# Altium integrated library Linear Technology Power Management System Supervisor, Monitor and Control.IntLib: 1611 symbols (part 57 of 100)
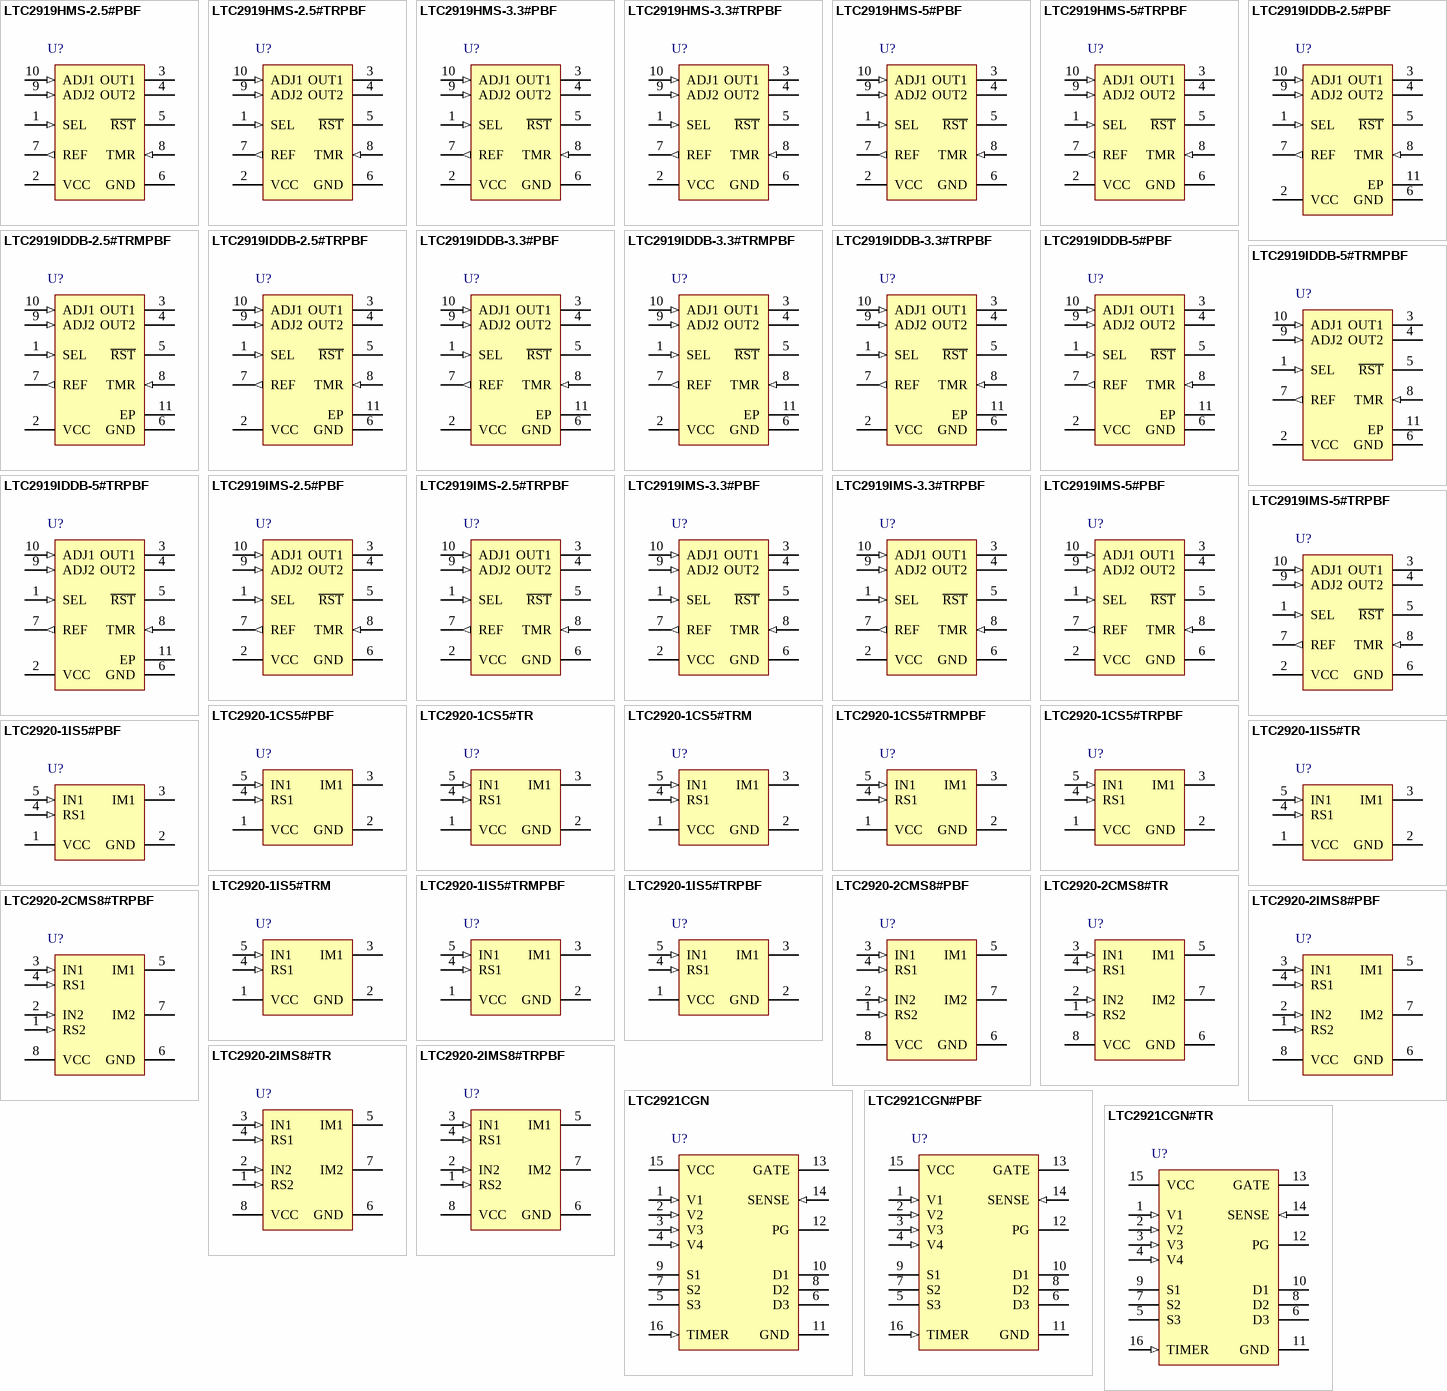
[diagram p101: symbols LTC2919HMS-2.5#PBF to LTC2921CGN#TR]

## LTC2920-1CS5#TR
designator U?
Single Power Supply Margining Controller, 5-pin SOT23 (S5-5), 0 to 70 degC, Tape and Reel; Manufacturer: Linear Technology; PartNumber: LTC2920-1CS5#TR; Number of Supplies(#): 1; DatasheetVersion: Rev. A; PackageVersion: Jun-10; PackageReference: S5-5; PackageDescription: 5-Pin Plastic TSOT-23, Body 1.63 x 2.90 mm, Pitch 0.95 mm; Supplier 1: Digi-Key; Supplier Part Number 1: LTC2920-1CS5#TR-ND; Packing: Tape and Reel; RoHS: FALSE; Mounting Technology: Surface Mount; Code_JEDEC: MO-193; ComponentLink1Description: Manufacturer URL; ComponentLink1URL: http://www.linear.com/; ComponentLink2Description: Datasheet; ComponentLink2URL: http://cds.linear.com/docs/en/datasheet/292012fa.pdf; ComponentLink3Description: Package Specification; ComponentLink3URL: http://cds.linear.com/docs/en/packaging/SOT_5_05-08-1635.pdf
footprint LT-S5-5-TSOT-23_N (SOT23, 5-Leads, Body 2.90x1.63mm, Pitch 0.95mm, IPC Medium Density)
footprint LT-S5-5-TSOT-23_L (SOT23, 5-Leads, Body 2.90x1.63mm, Pitch 0.95mm, IPC High Density)
footprint LT-S5-5-TSOT-23_M (SOT23, 5-Leads, Body 2.90x1.63mm, Pitch 0.95mm, IPC Low Density)
pins: 1 VCC (power) "Power Supply Input. All internal circuits are powered from this pin. VCC should be connected to a low noise power supply voltage between 2.3V and 6V and should be bypassed with at least a 0.1uF capacitor to the GND pin in (See Datasheet)", 2 GND (power) "Ground. All internal circuits are returned to the GND pin. Connect this ground pin to the ground of the power supply(s) being margined. Current sunk into the IM pins of the LTC2920 is returned to ground through this pin.", 3 IM1 (hiz) "IM1 Current Output. This pin should be connected to the power supply feedback pin or voltage adjust pin. (See the Applications Information section for further details.) Current is either sourced out of or sunk into this pin. (See Datasheet)", 4 RS1 (in) "IM1 Current Set Input. The RS1 pin is used to set the margining current which is sourced out of or sunk into the IM1 pin. The RS1 pin must be connected to either VCC or ground with an external resistor RSET with a value (See Datasheet)", 5 IN1 (in) "IM1 Control Pin. This pin is a 3-level input pin which controls the IM1 pin. If the IN1 pin is pulled above VIH, current is sunk into the IM1 pin. If the IN1 pin is pulled below VIL, current is sourced from the IM1 pin. If (See Datasheet)"

## LTC2920-1CS5#TRM
designator U?
Single Power Supply Margining Controller, 5-pin SOT23 (S5-5), 0 to 70 degC, Mini Tape and Reel; Manufacturer: Linear Technology; PartNumber: LTC2920-1CS5#TRM; Number of Supplies(#): 1; DatasheetVersion: Rev. A; PackageVersion: Jun-10; PackageReference: S5-5; PackageDescription: 5-Pin Plastic TSOT-23, Body 1.63 x 2.90 mm, Pitch 0.95 mm; Supplier 1: Digi-Key; Supplier Part Number 1: LTC2920-1CS5#TRMCT-ND; Packing: Mini Tape and Reel; RoHS: FALSE; Mounting Technology: Surface Mount; Code_JEDEC: MO-193; ComponentLink1Description: Manufacturer URL; ComponentLink1URL: http://www.linear.com/; ComponentLink2Description: Datasheet; ComponentLink2URL: http://cds.linear.com/docs/en/datasheet/292012fa.pdf; ComponentLink3Description: Package Specification; ComponentLink3URL: http://cds.linear.com/docs/en/packaging/SOT_5_05-08-1635.pdf
footprint LT-S5-5-TSOT-23_N (SOT23, 5-Leads, Body 2.90x1.63mm, Pitch 0.95mm, IPC Medium Density)
footprint LT-S5-5-TSOT-23_L (SOT23, 5-Leads, Body 2.90x1.63mm, Pitch 0.95mm, IPC High Density)
footprint LT-S5-5-TSOT-23_M (SOT23, 5-Leads, Body 2.90x1.63mm, Pitch 0.95mm, IPC Low Density)
pins: 1 VCC (power) "Power Supply Input. All internal circuits are powered from this pin. VCC should be connected to a low noise power supply voltage between 2.3V and 6V and should be bypassed with at least a 0.1uF capacitor to the GND pin in (See Datasheet)", 2 GND (power) "Ground. All internal circuits are returned to the GND pin. Connect this ground pin to the ground of the power supply(s) being margined. Current sunk into the IM pins of the LTC2920 is returned to ground through this pin.", 3 IM1 (hiz) "IM1 Current Output. This pin should be connected to the power supply feedback pin or voltage adjust pin. (See the Applications Information section for further details.) Current is either sourced out of or sunk into this pin. (See Datasheet)", 4 RS1 (in) "IM1 Current Set Input. The RS1 pin is used to set the margining current which is sourced out of or sunk into the IM1 pin. The RS1 pin must be connected to either VCC or ground with an external resistor RSET with a value (See Datasheet)", 5 IN1 (in) "IM1 Control Pin. This pin is a 3-level input pin which controls the IM1 pin. If the IN1 pin is pulled above VIH, current is sunk into the IM1 pin. If the IN1 pin is pulled below VIL, current is sourced from the IM1 pin. If (See Datasheet)"

## LTC2920-1CS5#TRMPBF
designator U?
Single Power Supply Margining Controller, 5-pin SOT23 (S5-5), 0 to 70 degC, Pb-Free, Mini Tape and Reel; Manufacturer: Linear Technology; PartNumber: LTC2920-1CS5#TRMPBF; Number of Supplies(#): 1; DatasheetVersion: Rev. A; PackageVersion: Jun-10; PackageReference: S5-5; PackageDescription: 5-Pin Plastic TSOT-23, Body 1.63 x 2.90 mm, Pitch 0.95 mm; Supplier 1: Digi-Key; Supplier Part Number 1: LTC2920-1CS5#TRMPBFTR-ND; Supplier 2: Digi-Key; Supplier Part Number 2: LTC2920-1CS5#TRMPBFCT-ND; Supplier 3: Digi-Key; Supplier Part Number 3: LTC2920-1CS5#TRMPBFDKR-ND; Packing: Mini Tape and Reel; RoHS: TRUE; Mounting Technology: Surface Mount; Code_JEDEC: MO-193; ComponentLink1Description: Manufacturer URL; ComponentLink1URL: http://www.linear.com/; ComponentLink2Description: Datasheet; ComponentLink2URL: http://cds.linear.com/docs/en/datasheet/292012fa.pdf; ComponentLink3Description: Package Specification; ComponentLink3URL: http://cds.linear.com/docs/en/packaging/SOT_5_05-08-1635.pdf
footprint LT-S5-5-TSOT-23_N (SOT23, 5-Leads, Body 2.90x1.63mm, Pitch 0.95mm, IPC Medium Density)
footprint LT-S5-5-TSOT-23_L (SOT23, 5-Leads, Body 2.90x1.63mm, Pitch 0.95mm, IPC High Density)
footprint LT-S5-5-TSOT-23_M (SOT23, 5-Leads, Body 2.90x1.63mm, Pitch 0.95mm, IPC Low Density)
pins: 1 VCC (power) "Power Supply Input. All internal circuits are powered from this pin. VCC should be connected to a low noise power supply voltage between 2.3V and 6V and should be bypassed with at least a 0.1uF capacitor to the GND pin in (See Datasheet)", 2 GND (power) "Ground. All internal circuits are returned to the GND pin. Connect this ground pin to the ground of the power supply(s) being margined. Current sunk into the IM pins of the LTC2920 is returned to ground through this pin.", 3 IM1 (hiz) "IM1 Current Output. This pin should be connected to the power supply feedback pin or voltage adjust pin. (See the Applications Information section for further details.) Current is either sourced out of or sunk into this pin. (See Datasheet)", 4 RS1 (in) "IM1 Current Set Input. The RS1 pin is used to set the margining current which is sourced out of or sunk into the IM1 pin. The RS1 pin must be connected to either VCC or ground with an external resistor RSET with a value (See Datasheet)", 5 IN1 (in) "IM1 Control Pin. This pin is a 3-level input pin which controls the IM1 pin. If the IN1 pin is pulled above VIH, current is sunk into the IM1 pin. If the IN1 pin is pulled below VIL, current is sourced from the IM1 pin. If (See Datasheet)"

## LTC2920-1CS5#TRPBF
designator U?
Single Power Supply Margining Controller, 5-pin SOT23 (S5-5), 0 to 70 degC, Pb-Free, Tape and Reel; Manufacturer: Linear Technology; PartNumber: LTC2920-1CS5#TRPBF; Number of Supplies(#): 1; DatasheetVersion: Rev. A; PackageVersion: Jun-10; PackageReference: S5-5; PackageDescription: 5-Pin Plastic TSOT-23, Body 1.63 x 2.90 mm, Pitch 0.95 mm; Supplier 1: Digi-Key; Supplier Part Number 1: LTC2920-1CS5#TRPBF-ND; Packing: Tape and Reel; RoHS: TRUE; Mounting Technology: Surface Mount; Code_JEDEC: MO-193; ComponentLink1Description: Manufacturer URL; ComponentLink1URL: http://www.linear.com/; ComponentLink2Description: Datasheet; ComponentLink2URL: http://cds.linear.com/docs/en/datasheet/292012fa.pdf; ComponentLink3Description: Package Specification; ComponentLink3URL: http://cds.linear.com/docs/en/packaging/SOT_5_05-08-1635.pdf
footprint LT-S5-5-TSOT-23_N (SOT23, 5-Leads, Body 2.90x1.63mm, Pitch 0.95mm, IPC Medium Density)
footprint LT-S5-5-TSOT-23_L (SOT23, 5-Leads, Body 2.90x1.63mm, Pitch 0.95mm, IPC High Density)
footprint LT-S5-5-TSOT-23_M (SOT23, 5-Leads, Body 2.90x1.63mm, Pitch 0.95mm, IPC Low Density)
pins: 1 VCC (power) "Power Supply Input. All internal circuits are powered from this pin. VCC should be connected to a low noise power supply voltage between 2.3V and 6V and should be bypassed with at least a 0.1uF capacitor to the GND pin in (See Datasheet)", 2 GND (power) "Ground. All internal circuits are returned to the GND pin. Connect this ground pin to the ground of the power supply(s) being margined. Current sunk into the IM pins of the LTC2920 is returned to ground through this pin.", 3 IM1 (hiz) "IM1 Current Output. This pin should be connected to the power supply feedback pin or voltage adjust pin. (See the Applications Information section for further details.) Current is either sourced out of or sunk into this pin. (See Datasheet)", 4 RS1 (in) "IM1 Current Set Input. The RS1 pin is used to set the margining current which is sourced out of or sunk into the IM1 pin. The RS1 pin must be connected to either VCC or ground with an external resistor RSET with a value (See Datasheet)", 5 IN1 (in) "IM1 Control Pin. This pin is a 3-level input pin which controls the IM1 pin. If the IN1 pin is pulled above VIH, current is sunk into the IM1 pin. If the IN1 pin is pulled below VIL, current is sourced from the IM1 pin. If (See Datasheet)"

## LTC2920-1IS5#PBF
designator U?
Single Power Supply Margining Controller, 5-pin SOT23 (S5-5), -40 to 85 degC, Pb-Free; Manufacturer: Linear Technology; PartNumber: LTC2920-1IS5#PBF; Number of Supplies(#): 1; DatasheetVersion: Rev. A; PackageVersion: Jun-10; PackageReference: S5-5; PackageDescription: 5-Pin Plastic TSOT-23, Body 1.63 x 2.90 mm, Pitch 0.95 mm; RoHS: TRUE; Mounting Technology: Surface Mount; Code_JEDEC: MO-193; ComponentLink1Description: Manufacturer URL; ComponentLink1URL: http://www.linear.com/; ComponentLink2Description: Datasheet; ComponentLink2URL: http://cds.linear.com/docs/en/datasheet/292012fa.pdf; ComponentLink3Description: Package Specification; ComponentLink3URL: http://cds.linear.com/docs/en/packaging/SOT_5_05-08-1635.pdf
footprint LT-S5-5-TSOT-23_N (SOT23, 5-Leads, Body 2.90x1.63mm, Pitch 0.95mm, IPC Medium Density)
footprint LT-S5-5-TSOT-23_L (SOT23, 5-Leads, Body 2.90x1.63mm, Pitch 0.95mm, IPC High Density)
footprint LT-S5-5-TSOT-23_M (SOT23, 5-Leads, Body 2.90x1.63mm, Pitch 0.95mm, IPC Low Density)
pins: 1 VCC (power) "Power Supply Input. All internal circuits are powered from this pin. VCC should be connected to a low noise power supply voltage between 2.3V and 6V and should be bypassed with at least a 0.1uF capacitor to the GND pin in (See Datasheet)", 2 GND (power) "Ground. All internal circuits are returned to the GND pin. Connect this ground pin to the ground of the power supply(s) being margined. Current sunk into the IM pins of the LTC2920 is returned to ground through this pin.", 3 IM1 (hiz) "IM1 Current Output. This pin should be connected to the power supply feedback pin or voltage adjust pin. (See the Applications Information section for further details.) Current is either sourced out of or sunk into this pin. (See Datasheet)", 4 RS1 (in) "IM1 Current Set Input. The RS1 pin is used to set the margining current which is sourced out of or sunk into the IM1 pin. The RS1 pin must be connected to either VCC or ground with an external resistor RSET with a value (See Datasheet)", 5 IN1 (in) "IM1 Control Pin. This pin is a 3-level input pin which controls the IM1 pin. If the IN1 pin is pulled above VIH, current is sunk into the IM1 pin. If the IN1 pin is pulled below VIL, current is sourced from the IM1 pin. If (See Datasheet)"

## LTC2920-1IS5#TR
designator U?
Single Power Supply Margining Controller, 5-pin SOT23 (S5-5), -40 to 85 degC, Tape and Reel; Manufacturer: Linear Technology; PartNumber: LTC2920-1IS5#TR; Number of Supplies(#): 1; DatasheetVersion: Rev. A; PackageVersion: Jun-10; PackageReference: S5-5; PackageDescription: 5-Pin Plastic TSOT-23, Body 1.63 x 2.90 mm, Pitch 0.95 mm; Supplier 1: Digi-Key; Supplier Part Number 1: LTC2920-1IS5#TR-ND; Packing: Tape and Reel; RoHS: FALSE; Mounting Technology: Surface Mount; Code_JEDEC: MO-193; ComponentLink1Description: Manufacturer URL; ComponentLink1URL: http://www.linear.com/; ComponentLink2Description: Datasheet; ComponentLink2URL: http://cds.linear.com/docs/en/datasheet/292012fa.pdf; ComponentLink3Description: Package Specification; ComponentLink3URL: http://cds.linear.com/docs/en/packaging/SOT_5_05-08-1635.pdf
footprint LT-S5-5-TSOT-23_N (SOT23, 5-Leads, Body 2.90x1.63mm, Pitch 0.95mm, IPC Medium Density)
footprint LT-S5-5-TSOT-23_L (SOT23, 5-Leads, Body 2.90x1.63mm, Pitch 0.95mm, IPC High Density)
footprint LT-S5-5-TSOT-23_M (SOT23, 5-Leads, Body 2.90x1.63mm, Pitch 0.95mm, IPC Low Density)
pins: 1 VCC (power) "Power Supply Input. All internal circuits are powered from this pin. VCC should be connected to a low noise power supply voltage between 2.3V and 6V and should be bypassed with at least a 0.1uF capacitor to the GND pin in (See Datasheet)", 2 GND (power) "Ground. All internal circuits are returned to the GND pin. Connect this ground pin to the ground of the power supply(s) being margined. Current sunk into the IM pins of the LTC2920 is returned to ground through this pin.", 3 IM1 (hiz) "IM1 Current Output. This pin should be connected to the power supply feedback pin or voltage adjust pin. (See the Applications Information section for further details.) Current is either sourced out of or sunk into this pin. (See Datasheet)", 4 RS1 (in) "IM1 Current Set Input. The RS1 pin is used to set the margining current which is sourced out of or sunk into the IM1 pin. The RS1 pin must be connected to either VCC or ground with an external resistor RSET with a value (See Datasheet)", 5 IN1 (in) "IM1 Control Pin. This pin is a 3-level input pin which controls the IM1 pin. If the IN1 pin is pulled above VIH, current is sunk into the IM1 pin. If the IN1 pin is pulled below VIL, current is sourced from the IM1 pin. If (See Datasheet)"

## LTC2920-1IS5#TRM
designator U?
Single Power Supply Margining Controller, 5-pin SOT23 (S5-5), -40 to 85 degC, Mini Tape and Reel; Manufacturer: Linear Technology; PartNumber: LTC2920-1IS5#TRM; Number of Supplies(#): 1; DatasheetVersion: Rev. A; PackageVersion: Jun-10; PackageReference: S5-5; PackageDescription: 5-Pin Plastic TSOT-23, Body 1.63 x 2.90 mm, Pitch 0.95 mm; Supplier 1: Digi-Key; Supplier Part Number 1: LTC2920-1IS5#TRM-ND; Packing: Mini Tape and Reel; RoHS: FALSE; Mounting Technology: Surface Mount; Code_JEDEC: MO-193; ComponentLink1Description: Manufacturer URL; ComponentLink1URL: http://www.linear.com/; ComponentLink2Description: Datasheet; ComponentLink2URL: http://cds.linear.com/docs/en/datasheet/292012fa.pdf; ComponentLink3Description: Package Specification; ComponentLink3URL: http://cds.linear.com/docs/en/packaging/SOT_5_05-08-1635.pdf
footprint LT-S5-5-TSOT-23_N (SOT23, 5-Leads, Body 2.90x1.63mm, Pitch 0.95mm, IPC Medium Density)
footprint LT-S5-5-TSOT-23_L (SOT23, 5-Leads, Body 2.90x1.63mm, Pitch 0.95mm, IPC High Density)
footprint LT-S5-5-TSOT-23_M (SOT23, 5-Leads, Body 2.90x1.63mm, Pitch 0.95mm, IPC Low Density)
pins: 1 VCC (power) "Power Supply Input. All internal circuits are powered from this pin. VCC should be connected to a low noise power supply voltage between 2.3V and 6V and should be bypassed with at least a 0.1uF capacitor to the GND pin in (See Datasheet)", 2 GND (power) "Ground. All internal circuits are returned to the GND pin. Connect this ground pin to the ground of the power supply(s) being margined. Current sunk into the IM pins of the LTC2920 is returned to ground through this pin.", 3 IM1 (hiz) "IM1 Current Output. This pin should be connected to the power supply feedback pin or voltage adjust pin. (See the Applications Information section for further details.) Current is either sourced out of or sunk into this pin. (See Datasheet)", 4 RS1 (in) "IM1 Current Set Input. The RS1 pin is used to set the margining current which is sourced out of or sunk into the IM1 pin. The RS1 pin must be connected to either VCC or ground with an external resistor RSET with a value (See Datasheet)", 5 IN1 (in) "IM1 Control Pin. This pin is a 3-level input pin which controls the IM1 pin. If the IN1 pin is pulled above VIH, current is sunk into the IM1 pin. If the IN1 pin is pulled below VIL, current is sourced from the IM1 pin. If (See Datasheet)"

## LTC2920-1IS5#TRMPBF
designator U?
Single Power Supply Margining Controller, 5-pin SOT23 (S5-5), -40 to 85 degC, Pb-Free, Mini Tape and Reel; Manufacturer: Linear Technology; PartNumber: LTC2920-1IS5#TRMPBF; Number of Supplies(#): 1; DatasheetVersion: Rev. A; PackageVersion: Jun-10; PackageReference: S5-5; PackageDescription: 5-Pin Plastic TSOT-23, Body 1.63 x 2.90 mm, Pitch 0.95 mm; Supplier 1: Digi-Key; Supplier Part Number 1: LTC2920-1IS5#TRMPBF-ND; Packing: Mini Tape and Reel; RoHS: TRUE; Mounting Technology: Surface Mount; Code_JEDEC: MO-193; ComponentLink1Description: Manufacturer URL; ComponentLink1URL: http://www.linear.com/; ComponentLink2Description: Datasheet; ComponentLink2URL: http://cds.linear.com/docs/en/datasheet/292012fa.pdf; ComponentLink3Description: Package Specification; ComponentLink3URL: http://cds.linear.com/docs/en/packaging/SOT_5_05-08-1635.pdf
footprint LT-S5-5-TSOT-23_N (SOT23, 5-Leads, Body 2.90x1.63mm, Pitch 0.95mm, IPC Medium Density)
footprint LT-S5-5-TSOT-23_L (SOT23, 5-Leads, Body 2.90x1.63mm, Pitch 0.95mm, IPC High Density)
footprint LT-S5-5-TSOT-23_M (SOT23, 5-Leads, Body 2.90x1.63mm, Pitch 0.95mm, IPC Low Density)
pins: 1 VCC (power) "Power Supply Input. All internal circuits are powered from this pin. VCC should be connected to a low noise power supply voltage between 2.3V and 6V and should be bypassed with at least a 0.1uF capacitor to the GND pin in (See Datasheet)", 2 GND (power) "Ground. All internal circuits are returned to the GND pin. Connect this ground pin to the ground of the power supply(s) being margined. Current sunk into the IM pins of the LTC2920 is returned to ground through this pin.", 3 IM1 (hiz) "IM1 Current Output. This pin should be connected to the power supply feedback pin or voltage adjust pin. (See the Applications Information section for further details.) Current is either sourced out of or sunk into this pin. (See Datasheet)", 4 RS1 (in) "IM1 Current Set Input. The RS1 pin is used to set the margining current which is sourced out of or sunk into the IM1 pin. The RS1 pin must be connected to either VCC or ground with an external resistor RSET with a value (See Datasheet)", 5 IN1 (in) "IM1 Control Pin. This pin is a 3-level input pin which controls the IM1 pin. If the IN1 pin is pulled above VIH, current is sunk into the IM1 pin. If the IN1 pin is pulled below VIL, current is sourced from the IM1 pin. If (See Datasheet)"

## LTC2920-1IS5#TRPBF
designator U?
Single Power Supply Margining Controller, 5-pin SOT23 (S5-5), -40 to 85 degC, Pb-Free, Tape and Reel; Manufacturer: Linear Technology; PartNumber: LTC2920-1IS5#TRPBF; Number of Supplies(#): 1; DatasheetVersion: Rev. A; PackageVersion: Jun-10; PackageReference: S5-5; PackageDescription: 5-Pin Plastic TSOT-23, Body 1.63 x 2.90 mm, Pitch 0.95 mm; Supplier 1: Digi-Key; Supplier Part Number 1: LTC2920-1IS5#TRPBF-ND; Packing: Tape and Reel; RoHS: TRUE; Mounting Technology: Surface Mount; Code_JEDEC: MO-193; ComponentLink1Description: Manufacturer URL; ComponentLink1URL: http://www.linear.com/; ComponentLink2Description: Datasheet; ComponentLink2URL: http://cds.linear.com/docs/en/datasheet/292012fa.pdf; ComponentLink3Description: Package Specification; ComponentLink3URL: http://cds.linear.com/docs/en/packaging/SOT_5_05-08-1635.pdf
footprint LT-S5-5-TSOT-23_N (SOT23, 5-Leads, Body 2.90x1.63mm, Pitch 0.95mm, IPC Medium Density)
footprint LT-S5-5-TSOT-23_L (SOT23, 5-Leads, Body 2.90x1.63mm, Pitch 0.95mm, IPC High Density)
footprint LT-S5-5-TSOT-23_M (SOT23, 5-Leads, Body 2.90x1.63mm, Pitch 0.95mm, IPC Low Density)
pins: 1 VCC (power) "Power Supply Input. All internal circuits are powered from this pin. VCC should be connected to a low noise power supply voltage between 2.3V and 6V and should be bypassed with at least a 0.1uF capacitor to the GND pin in (See Datasheet)", 2 GND (power) "Ground. All internal circuits are returned to the GND pin. Connect this ground pin to the ground of the power supply(s) being margined. Current sunk into the IM pins of the LTC2920 is returned to ground through this pin.", 3 IM1 (hiz) "IM1 Current Output. This pin should be connected to the power supply feedback pin or voltage adjust pin. (See the Applications Information section for further details.) Current is either sourced out of or sunk into this pin. (See Datasheet)", 4 RS1 (in) "IM1 Current Set Input. The RS1 pin is used to set the margining current which is sourced out of or sunk into the IM1 pin. The RS1 pin must be connected to either VCC or ground with an external resistor RSET with a value (See Datasheet)", 5 IN1 (in) "IM1 Control Pin. This pin is a 3-level input pin which controls the IM1 pin. If the IN1 pin is pulled above VIH, current is sunk into the IM1 pin. If the IN1 pin is pulled below VIL, current is sourced from the IM1 pin. If (See Datasheet)"

## LTC2920-2CMS8#PBF
designator U?
Dual Power Supply Margining Controller, 8-pin SOP (MS8-8), 0 to 70 degC, Pb-Free; Manufacturer: Linear Technology; PartNumber: LTC2920-2CMS8#PBF; Number of Supplies(#): 1; DatasheetVersion: Rev. A; PackageVersion: Rev. G, 03/2012; PackageReference: MS8-8; PackageDescription: 8-Pin Plastic MSOP, Body 3 x 3 mm, Pitch 0.65 mm; Supplier 1: Digi-Key; Supplier Part Number 1: LTC2920-2CMS8#PBF-ND; RoHS: TRUE; Mounting Technology: Surface Mount; ComponentLink1Description: Manufacturer URL; ComponentLink1URL: http://www.linear.com/; ComponentLink2Description: Datasheet; ComponentLink2URL: http://cds.linear.com/docs/en/datasheet/292012fa.pdf; ComponentLink3Description: Package Specification; ComponentLink3URL: http://cds.linear.com/docs/en/packaging/05081660_G_MS8.pdf
footprint LT-MS8-8_N (SOP, 8-Leads, Body 3.1x3.1mm, Pitch 0.65mm, IPC Medium Density)
footprint LT-MS8-8_L (SOP, 8-Leads, Body 3.1x3.1mm, Pitch 0.65mm, IPC High Density)
footprint LT-MS8-8_M (SOP, 8-Leads, Body 3.1x3.1mm, Pitch 0.65mm, IPC Low Density)
pins: 1 RS2 (in) "IM2 Current Set Input. Sets the current for IM2. See RS1.", 2 IN2 (in) "IM2 Control Pin. This pin controls the current at the IM2 pin. See IN1.", 3 IN1 (in) "IM1 Control Pin. This pin is a 3-level input pin which controls the IM1 pin. If the IN1 pin is pulled above VIH, current is sunk into the IM1 pin. If the IN1 pin is pulled below VIL, current is sourced from the IM1 pin. If (See Datasheet)", 4 RS1 (in) "IM1 Current Set Input. The RS1 pin is used to set the margining current which is sourced out of or sunk into the IM1 pin. The RS1 pin must be connected to either VCC or ground with an external resistor RSET with a value (See Datasheet)", 5 IM1 (hiz) "IM1 Current Output. This pin should be connected to the power supply feedback pin or voltage adjust pin. (See the Applications Information section for further details.) Current is either sourced out of or sunk into this pin. (See Datasheet)", 6 GND (power) "Ground. All internal circuits are returned to the GND pin. Connect this ground pin to the ground of the power supply(s) being margined. Current sunk into the IM pins of the LTC2920 is returned to ground through this pin.", 7 IM2 (hiz) "IM2 Current Output. This pin is the second margin current output for the LTC2920. See IM1.", 8 VCC (power) "Power Supply Input. All internal circuits are powered from this pin. VCC should be connected to a low noise power supply voltage between 2.3V and 6V and should be bypassed with at least a 0.1uF capacitor to the GND pin in (See Datasheet)"

## LTC2920-2CMS8#TR
designator U?
Dual Power Supply Margining Controller, 8-pin SOP (MS8-8), 0 to 70 degC, Tape and Reel; Manufacturer: Linear Technology; PartNumber: LTC2920-2CMS8#TR; Number of Supplies(#): 1; DatasheetVersion: Rev. A; PackageVersion: Rev. G, 03/2012; PackageReference: MS8-8; PackageDescription: 8-Pin Plastic MSOP, Body 3 x 3 mm, Pitch 0.65 mm; Supplier 1: Digi-Key; Supplier Part Number 1: LTC2920-2CMS8#TR-ND; Packing: Tape and Reel; RoHS: FALSE; Mounting Technology: Surface Mount; ComponentLink1Description: Manufacturer URL; ComponentLink1URL: http://www.linear.com/; ComponentLink2Description: Datasheet; ComponentLink2URL: http://cds.linear.com/docs/en/datasheet/292012fa.pdf; ComponentLink3Description: Package Specification; ComponentLink3URL: http://cds.linear.com/docs/en/packaging/05081660_G_MS8.pdf
footprint LT-MS8-8_N (SOP, 8-Leads, Body 3.1x3.1mm, Pitch 0.65mm, IPC Medium Density)
footprint LT-MS8-8_L (SOP, 8-Leads, Body 3.1x3.1mm, Pitch 0.65mm, IPC High Density)
footprint LT-MS8-8_M (SOP, 8-Leads, Body 3.1x3.1mm, Pitch 0.65mm, IPC Low Density)
pins: 1 RS2 (in) "IM2 Current Set Input. Sets the current for IM2. See RS1.", 2 IN2 (in) "IM2 Control Pin. This pin controls the current at the IM2 pin. See IN1.", 3 IN1 (in) "IM1 Control Pin. This pin is a 3-level input pin which controls the IM1 pin. If the IN1 pin is pulled above VIH, current is sunk into the IM1 pin. If the IN1 pin is pulled below VIL, current is sourced from the IM1 pin. If (See Datasheet)", 4 RS1 (in) "IM1 Current Set Input. The RS1 pin is used to set the margining current which is sourced out of or sunk into the IM1 pin. The RS1 pin must be connected to either VCC or ground with an external resistor RSET with a value (See Datasheet)", 5 IM1 (hiz) "IM1 Current Output. This pin should be connected to the power supply feedback pin or voltage adjust pin. (See the Applications Information section for further details.) Current is either sourced out of or sunk into this pin. (See Datasheet)", 6 GND (power) "Ground. All internal circuits are returned to the GND pin. Connect this ground pin to the ground of the power supply(s) being margined. Current sunk into the IM pins of the LTC2920 is returned to ground through this pin.", 7 IM2 (hiz) "IM2 Current Output. This pin is the second margin current output for the LTC2920. See IM1.", 8 VCC (power) "Power Supply Input. All internal circuits are powered from this pin. VCC should be connected to a low noise power supply voltage between 2.3V and 6V and should be bypassed with at least a 0.1uF capacitor to the GND pin in (See Datasheet)"

## LTC2920-2CMS8#TRPBF
designator U?
Dual Power Supply Margining Controller, 8-pin SOP (MS8-8), 0 to 70 degC, Pb-Free, Tape and Reel; Manufacturer: Linear Technology; PartNumber: LTC2920-2CMS8#TRPBF; Number of Supplies(#): 1; DatasheetVersion: Rev. A; PackageVersion: Rev. G, 03/2012; PackageReference: MS8-8; PackageDescription: 8-Pin Plastic MSOP, Body 3 x 3 mm, Pitch 0.65 mm; Supplier 1: Digi-Key; Supplier Part Number 1: LTC2920-2CMS8#TRPBF-ND; Packing: Tape and Reel; RoHS: TRUE; Mounting Technology: Surface Mount; ComponentLink1Description: Manufacturer URL; ComponentLink1URL: http://www.linear.com/; ComponentLink2Description: Datasheet; ComponentLink2URL: http://cds.linear.com/docs/en/datasheet/292012fa.pdf; ComponentLink3Description: Package Specification; ComponentLink3URL: http://cds.linear.com/docs/en/packaging/05081660_G_MS8.pdf
footprint LT-MS8-8_N (SOP, 8-Leads, Body 3.1x3.1mm, Pitch 0.65mm, IPC Medium Density)
footprint LT-MS8-8_L (SOP, 8-Leads, Body 3.1x3.1mm, Pitch 0.65mm, IPC High Density)
footprint LT-MS8-8_M (SOP, 8-Leads, Body 3.1x3.1mm, Pitch 0.65mm, IPC Low Density)
pins: 1 RS2 (in) "IM2 Current Set Input. Sets the current for IM2. See RS1.", 2 IN2 (in) "IM2 Control Pin. This pin controls the current at the IM2 pin. See IN1.", 3 IN1 (in) "IM1 Control Pin. This pin is a 3-level input pin which controls the IM1 pin. If the IN1 pin is pulled above VIH, current is sunk into the IM1 pin. If the IN1 pin is pulled below VIL, current is sourced from the IM1 pin. If (See Datasheet)", 4 RS1 (in) "IM1 Current Set Input. The RS1 pin is used to set the margining current which is sourced out of or sunk into the IM1 pin. The RS1 pin must be connected to either VCC or ground with an external resistor RSET with a value (See Datasheet)", 5 IM1 (hiz) "IM1 Current Output. This pin should be connected to the power supply feedback pin or voltage adjust pin. (See the Applications Information section for further details.) Current is either sourced out of or sunk into this pin. (See Datasheet)", 6 GND (power) "Ground. All internal circuits are returned to the GND pin. Connect this ground pin to the ground of the power supply(s) being margined. Current sunk into the IM pins of the LTC2920 is returned to ground through this pin.", 7 IM2 (hiz) "IM2 Current Output. This pin is the second margin current output for the LTC2920. See IM1.", 8 VCC (power) "Power Supply Input. All internal circuits are powered from this pin. VCC should be connected to a low noise power supply voltage between 2.3V and 6V and should be bypassed with at least a 0.1uF capacitor to the GND pin in (See Datasheet)"

## LTC2920-2IMS8#PBF
designator U?
Dual Power Supply Margining Controller, 8-pin SOP (MS8-8), -40 to 85 degC, Pb-Free; Manufacturer: Linear Technology; PartNumber: LTC2920-2IMS8#PBF; Number of Supplies(#): 1; DatasheetVersion: Rev. A; PackageVersion: Rev. G, 03/2012; PackageReference: MS8-8; PackageDescription: 8-Pin Plastic MSOP, Body 3 x 3 mm, Pitch 0.65 mm; Supplier 1: Digi-Key; Supplier Part Number 1: LTC2920-2IMS8#PBF-ND; RoHS: TRUE; Mounting Technology: Surface Mount; ComponentLink1Description: Manufacturer URL; ComponentLink1URL: http://www.linear.com/; ComponentLink2Description: Datasheet; ComponentLink2URL: http://cds.linear.com/docs/en/datasheet/292012fa.pdf; ComponentLink3Description: Package Specification; ComponentLink3URL: http://cds.linear.com/docs/en/packaging/05081660_G_MS8.pdf
footprint LT-MS8-8_N (SOP, 8-Leads, Body 3.1x3.1mm, Pitch 0.65mm, IPC Medium Density)
footprint LT-MS8-8_L (SOP, 8-Leads, Body 3.1x3.1mm, Pitch 0.65mm, IPC High Density)
footprint LT-MS8-8_M (SOP, 8-Leads, Body 3.1x3.1mm, Pitch 0.65mm, IPC Low Density)
pins: 1 RS2 (in) "IM2 Current Set Input. Sets the current for IM2. See RS1.", 2 IN2 (in) "IM2 Control Pin. This pin controls the current at the IM2 pin. See IN1.", 3 IN1 (in) "IM1 Control Pin. This pin is a 3-level input pin which controls the IM1 pin. If the IN1 pin is pulled above VIH, current is sunk into the IM1 pin. If the IN1 pin is pulled below VIL, current is sourced from the IM1 pin. If (See Datasheet)", 4 RS1 (in) "IM1 Current Set Input. The RS1 pin is used to set the margining current which is sourced out of or sunk into the IM1 pin. The RS1 pin must be connected to either VCC or ground with an external resistor RSET with a value (See Datasheet)", 5 IM1 (hiz) "IM1 Current Output. This pin should be connected to the power supply feedback pin or voltage adjust pin. (See the Applications Information section for further details.) Current is either sourced out of or sunk into this pin. (See Datasheet)", 6 GND (power) "Ground. All internal circuits are returned to the GND pin. Connect this ground pin to the ground of the power supply(s) being margined. Current sunk into the IM pins of the LTC2920 is returned to ground through this pin.", 7 IM2 (hiz) "IM2 Current Output. This pin is the second margin current output for the LTC2920. See IM1.", 8 VCC (power) "Power Supply Input. All internal circuits are powered from this pin. VCC should be connected to a low noise power supply voltage between 2.3V and 6V and should be bypassed with at least a 0.1uF capacitor to the GND pin in (See Datasheet)"

## LTC2920-2IMS8#TR
designator U?
Dual Power Supply Margining Controller, 8-pin SOP (MS8-8), -40 to 85 degC, Tape and Reel; Manufacturer: Linear Technology; PartNumber: LTC2920-2IMS8#TR; Number of Supplies(#): 1; DatasheetVersion: Rev. A; PackageVersion: Rev. G, 03/2012; PackageReference: MS8-8; PackageDescription: 8-Pin Plastic MSOP, Body 3 x 3 mm, Pitch 0.65 mm; Supplier 1: Digi-Key; Supplier Part Number 1: LTC2920-2IMS8#TR-ND; Packing: Tape and Reel; RoHS: FALSE; Mounting Technology: Surface Mount; ComponentLink1Description: Manufacturer URL; ComponentLink1URL: http://www.linear.com/; ComponentLink2Description: Datasheet; ComponentLink2URL: http://cds.linear.com/docs/en/datasheet/292012fa.pdf; ComponentLink3Description: Package Specification; ComponentLink3URL: http://cds.linear.com/docs/en/packaging/05081660_G_MS8.pdf
footprint LT-MS8-8_N (SOP, 8-Leads, Body 3.1x3.1mm, Pitch 0.65mm, IPC Medium Density)
footprint LT-MS8-8_L (SOP, 8-Leads, Body 3.1x3.1mm, Pitch 0.65mm, IPC High Density)
footprint LT-MS8-8_M (SOP, 8-Leads, Body 3.1x3.1mm, Pitch 0.65mm, IPC Low Density)
pins: 1 RS2 (in) "IM2 Current Set Input. Sets the current for IM2. See RS1.", 2 IN2 (in) "IM2 Control Pin. This pin controls the current at the IM2 pin. See IN1.", 3 IN1 (in) "IM1 Control Pin. This pin is a 3-level input pin which controls the IM1 pin. If the IN1 pin is pulled above VIH, current is sunk into the IM1 pin. If the IN1 pin is pulled below VIL, current is sourced from the IM1 pin. If (See Datasheet)", 4 RS1 (in) "IM1 Current Set Input. The RS1 pin is used to set the margining current which is sourced out of or sunk into the IM1 pin. The RS1 pin must be connected to either VCC or ground with an external resistor RSET with a value (See Datasheet)", 5 IM1 (hiz) "IM1 Current Output. This pin should be connected to the power supply feedback pin or voltage adjust pin. (See the Applications Information section for further details.) Current is either sourced out of or sunk into this pin. (See Datasheet)", 6 GND (power) "Ground. All internal circuits are returned to the GND pin. Connect this ground pin to the ground of the power supply(s) being margined. Current sunk into the IM pins of the LTC2920 is returned to ground through this pin.", 7 IM2 (hiz) "IM2 Current Output. This pin is the second margin current output for the LTC2920. See IM1.", 8 VCC (power) "Power Supply Input. All internal circuits are powered from this pin. VCC should be connected to a low noise power supply voltage between 2.3V and 6V and should be bypassed with at least a 0.1uF capacitor to the GND pin in (See Datasheet)"

## LTC2920-2IMS8#TRPBF
designator U?
Dual Power Supply Margining Controller, 8-pin SOP (MS8-8), -40 to 85 degC, Pb-Free, Tape and Reel; Manufacturer: Linear Technology; PartNumber: LTC2920-2IMS8#TRPBF; Number of Supplies(#): 1; DatasheetVersion: Rev. A; PackageVersion: Rev. G, 03/2012; PackageReference: MS8-8; PackageDescription: 8-Pin Plastic MSOP, Body 3 x 3 mm, Pitch 0.65 mm; Supplier 1: Digi-Key; Supplier Part Number 1: LTC2920-2IMS8#TRPBF-ND; Packing: Tape and Reel; RoHS: TRUE; Mounting Technology: Surface Mount; ComponentLink1Description: Manufacturer URL; ComponentLink1URL: http://www.linear.com/; ComponentLink2Description: Datasheet; ComponentLink2URL: http://cds.linear.com/docs/en/datasheet/292012fa.pdf; ComponentLink3Description: Package Specification; ComponentLink3URL: http://cds.linear.com/docs/en/packaging/05081660_G_MS8.pdf
footprint LT-MS8-8_N (SOP, 8-Leads, Body 3.1x3.1mm, Pitch 0.65mm, IPC Medium Density)
footprint LT-MS8-8_L (SOP, 8-Leads, Body 3.1x3.1mm, Pitch 0.65mm, IPC High Density)
footprint LT-MS8-8_M (SOP, 8-Leads, Body 3.1x3.1mm, Pitch 0.65mm, IPC Low Density)
pins: 1 RS2 (in) "IM2 Current Set Input. Sets the current for IM2. See RS1.", 2 IN2 (in) "IM2 Control Pin. This pin controls the current at the IM2 pin. See IN1.", 3 IN1 (in) "IM1 Control Pin. This pin is a 3-level input pin which controls the IM1 pin. If the IN1 pin is pulled above VIH, current is sunk into the IM1 pin. If the IN1 pin is pulled below VIL, current is sourced from the IM1 pin. If (See Datasheet)", 4 RS1 (in) "IM1 Current Set Input. The RS1 pin is used to set the margining current which is sourced out of or sunk into the IM1 pin. The RS1 pin must be connected to either VCC or ground with an external resistor RSET with a value (See Datasheet)", 5 IM1 (hiz) "IM1 Current Output. This pin should be connected to the power supply feedback pin or voltage adjust pin. (See the Applications Information section for further details.) Current is either sourced out of or sunk into this pin. (See Datasheet)", 6 GND (power) "Ground. All internal circuits are returned to the GND pin. Connect this ground pin to the ground of the power supply(s) being margined. Current sunk into the IM pins of the LTC2920 is returned to ground through this pin.", 7 IM2 (hiz) "IM2 Current Output. This pin is the second margin current output for the LTC2920. See IM1.", 8 VCC (power) "Power Supply Input. All internal circuits are powered from this pin. VCC should be connected to a low noise power supply voltage between 2.3V and 6V and should be bypassed with at least a 0.1uF capacitor to the GND pin in (See Datasheet)"

## LTC2921CGN
designator U?
Power Supply Tracker with Input Monitor, 16-pin SOP (GN-16), 0 to 70 degC; Manufacturer: Linear Technology; PartNumber: LTC2921CGN; Number of Supplies(#): 5; DatasheetVersion: Rev. A; PackageVersion: Rev. B, 03/2012; PackageReference: GN-16; PackageDescription: 16-Pin Plastic SSOP, Body 4.9 x 3.9 mm, Pitch 0.635 mm; RoHS: FALSE; Mounting Technology: Surface Mount; ComponentLink1Description: Manufacturer URL; ComponentLink1URL: http://www.linear.com/; ComponentLink2Description: Datasheet; ComponentLink2URL: http://cds.linear.com/docs/en/datasheet/29212fa.pdf; ComponentLink3Description: Package Specification; ComponentLink3URL: http://cds.linear.com/docs/en/packaging/05081641_B_GN16.pdf
footprint LT-GN-16_N (SOP, 16-Leads, Body 5x4mm, Pitch 0.635mm, IPC Medium Density)
footprint LT-GN-16_L (SOP, 16-Leads, Body 5x4mm, Pitch 0.635mm, IPC High Density)
footprint LT-GN-16_M (SOP, 16-Leads, Body 5x4mm, Pitch 0.635mm, IPC Low Density)
pins: 1 V1 (in) "Supply Monitor Inputs. All four inputs must lie above the monitor threshold level (0.5V) and below the monitor overvoltage level (0.7V) for a turnon sequence to commence or continue. When any monitor input falls outside (See Datasheet)", 2 V2 (in) "Supply Monitor Inputs. All four inputs must lie above the monitor threshold level (0.5V) and below the monitor overvoltage level (0.7V) for a turnon sequence to commence or continue. When any monitor input falls outside (See Datasheet)", 3 V3 (in) "Supply Monitor Inputs. All four inputs must lie above the monitor threshold level (0.5V) and below the monitor overvoltage level (0.7V) for a turnon sequence to commence or continue. When any monitor input falls outside (See Datasheet)", 4 V4 (in) "Supply Monitor Inputs. All four inputs must lie above the monitor threshold level (0.5V) and below the monitor overvoltage level (0.7V) for a turnon sequence to commence or continue. When any monitor input falls outside (See Datasheet)", 5 S3 "Remote Sense Switch 3. Tie to GND if unused.", 6 D3 "Remote Sense Switch 3. Tie to GND if unused.", 7 S2 "Remote Sense Switch 2. Tie to GND if unused.", 8 D2 "Remote Sense Switch 2. Tie to GND if unused.", 9 S1 "Remote Sense Switch 1. Tie to GND if unused.", 10 D1 "Remote Sense Switch 1. Tie to GND if unused.", 11 GND (power) "Circuit Ground.", 12 PG (oc) "Power Good Output. A 4uA current source from the internal charge pump rail (VPUMP) pulls PG up after the turn-on sequence is complete. The output is pulled to ground before turn-on is complete, when any monitor is out of (See Datasheet)", 13 GATE (oc) "Gate Drive for External N-Channel FETs. A 10uA current source from the internal charge pump rail (VPUMP) ramps the gates of the external Nchannel MOSFETs forcing all supplies to track on. The resistor and capacitor network (See Datasheet)", 14 SENSE (in) "Circuit Breaker Sense Input. An external resistor between VCC and SENSE sets the electronic circuit breaker trip current. The breaker trips when the voltage across the resistor exceeds 50mV for 1us. To disable the circuit (See Datasheet)", 15 VCC (power) "Supply Voltage. The voltage at VCC is monitored through an internal resistive divider in a manner similar to the V1-V4 inputs. An undervoltage lockout circuit disables the part until the voltage at VCC is greater than 2.2V. (See Datasheet)", 16 TIMER (in) "Timing Delay Input. Connect a capacitor between this pin and ground to set a 600ms/mF delay at two points in the monitoring sequence. This sets the delay after all monitors are good, before the start of GATE ramping, and the (See Datasheet)"

## LTC2921CGN#PBF
designator U?
Power Supply Tracker with Input Monitor, 16-pin SOP (GN-16), 0 to 70 degC, Pb-Free; Manufacturer: Linear Technology; PartNumber: LTC2921CGN#PBF; Number of Supplies(#): 5; DatasheetVersion: Rev. A; PackageVersion: Rev. B, 03/2012; PackageReference: GN-16; PackageDescription: 16-Pin Plastic SSOP, Body 4.9 x 3.9 mm, Pitch 0.635 mm; Supplier 1: Digi-Key; Supplier Part Number 1: LTC2921CGN#PBF-ND; RoHS: TRUE; Mounting Technology: Surface Mount; ComponentLink1Description: Manufacturer URL; ComponentLink1URL: http://www.linear.com/; ComponentLink2Description: Datasheet; ComponentLink2URL: http://cds.linear.com/docs/en/datasheet/29212fa.pdf; ComponentLink3Description: Package Specification; ComponentLink3URL: http://cds.linear.com/docs/en/packaging/05081641_B_GN16.pdf
footprint LT-GN-16_N (SOP, 16-Leads, Body 5x4mm, Pitch 0.635mm, IPC Medium Density)
footprint LT-GN-16_L (SOP, 16-Leads, Body 5x4mm, Pitch 0.635mm, IPC High Density)
footprint LT-GN-16_M (SOP, 16-Leads, Body 5x4mm, Pitch 0.635mm, IPC Low Density)
pins: 1 V1 (in) "Supply Monitor Inputs. All four inputs must lie above the monitor threshold level (0.5V) and below the monitor overvoltage level (0.7V) for a turnon sequence to commence or continue. When any monitor input falls outside (See Datasheet)", 2 V2 (in) "Supply Monitor Inputs. All four inputs must lie above the monitor threshold level (0.5V) and below the monitor overvoltage level (0.7V) for a turnon sequence to commence or continue. When any monitor input falls outside (See Datasheet)", 3 V3 (in) "Supply Monitor Inputs. All four inputs must lie above the monitor threshold level (0.5V) and below the monitor overvoltage level (0.7V) for a turnon sequence to commence or continue. When any monitor input falls outside (See Datasheet)", 4 V4 (in) "Supply Monitor Inputs. All four inputs must lie above the monitor threshold level (0.5V) and below the monitor overvoltage level (0.7V) for a turnon sequence to commence or continue. When any monitor input falls outside (See Datasheet)", 5 S3 "Remote Sense Switch 3. Tie to GND if unused.", 6 D3 "Remote Sense Switch 3. Tie to GND if unused.", 7 S2 "Remote Sense Switch 2. Tie to GND if unused.", 8 D2 "Remote Sense Switch 2. Tie to GND if unused.", 9 S1 "Remote Sense Switch 1. Tie to GND if unused.", 10 D1 "Remote Sense Switch 1. Tie to GND if unused.", 11 GND (power) "Circuit Ground.", 12 PG (oc) "Power Good Output. A 4uA current source from the internal charge pump rail (VPUMP) pulls PG up after the turn-on sequence is complete. The output is pulled to ground before turn-on is complete, when any monitor is out of (See Datasheet)", 13 GATE (oc) "Gate Drive for External N-Channel FETs. A 10uA current source from the internal charge pump rail (VPUMP) ramps the gates of the external Nchannel MOSFETs forcing all supplies to track on. The resistor and capacitor network (See Datasheet)", 14 SENSE (in) "Circuit Breaker Sense Input. An external resistor between VCC and SENSE sets the electronic circuit breaker trip current. The breaker trips when the voltage across the resistor exceeds 50mV for 1us. To disable the circuit (See Datasheet)", 15 VCC (power) "Supply Voltage. The voltage at VCC is monitored through an internal resistive divider in a manner similar to the V1-V4 inputs. An undervoltage lockout circuit disables the part until the voltage at VCC is greater than 2.2V. (See Datasheet)", 16 TIMER (in) "Timing Delay Input. Connect a capacitor between this pin and ground to set a 600ms/mF delay at two points in the monitoring sequence. This sets the delay after all monitors are good, before the start of GATE ramping, and the (See Datasheet)"

## LTC2921CGN#TR
designator U?
Power Supply Tracker with Input Monitor, 16-pin SOP (GN-16), 0 to 70 degC, Tape and Reel; Manufacturer: Linear Technology; PartNumber: LTC2921CGN#TR; Number of Supplies(#): 5; DatasheetVersion: Rev. A; PackageVersion: Rev. B, 03/2012; PackageReference: GN-16; PackageDescription: 16-Pin Plastic SSOP, Body 4.9 x 3.9 mm, Pitch 0.635 mm; Supplier 1: Digi-Key; Supplier Part Number 1: LTC2921CGN#TR-ND; Packing: Tape and Reel; RoHS: FALSE; Mounting Technology: Surface Mount; ComponentLink1Description: Manufacturer URL; ComponentLink1URL: http://www.linear.com/; ComponentLink2Description: Datasheet; ComponentLink2URL: http://cds.linear.com/docs/en/datasheet/29212fa.pdf; ComponentLink3Description: Package Specification; ComponentLink3URL: http://cds.linear.com/docs/en/packaging/05081641_B_GN16.pdf
footprint LT-GN-16_N (SOP, 16-Leads, Body 5x4mm, Pitch 0.635mm, IPC Medium Density)
footprint LT-GN-16_L (SOP, 16-Leads, Body 5x4mm, Pitch 0.635mm, IPC High Density)
footprint LT-GN-16_M (SOP, 16-Leads, Body 5x4mm, Pitch 0.635mm, IPC Low Density)
pins: 1 V1 (in) "Supply Monitor Inputs. All four inputs must lie above the monitor threshold level (0.5V) and below the monitor overvoltage level (0.7V) for a turnon sequence to commence or continue. When any monitor input falls outside (See Datasheet)", 2 V2 (in) "Supply Monitor Inputs. All four inputs must lie above the monitor threshold level (0.5V) and below the monitor overvoltage level (0.7V) for a turnon sequence to commence or continue. When any monitor input falls outside (See Datasheet)", 3 V3 (in) "Supply Monitor Inputs. All four inputs must lie above the monitor threshold level (0.5V) and below the monitor overvoltage level (0.7V) for a turnon sequence to commence or continue. When any monitor input falls outside (See Datasheet)", 4 V4 (in) "Supply Monitor Inputs. All four inputs must lie above the monitor threshold level (0.5V) and below the monitor overvoltage level (0.7V) for a turnon sequence to commence or continue. When any monitor input falls outside (See Datasheet)", 5 S3 "Remote Sense Switch 3. Tie to GND if unused.", 6 D3 "Remote Sense Switch 3. Tie to GND if unused.", 7 S2 "Remote Sense Switch 2. Tie to GND if unused.", 8 D2 "Remote Sense Switch 2. Tie to GND if unused.", 9 S1 "Remote Sense Switch 1. Tie to GND if unused.", 10 D1 "Remote Sense Switch 1. Tie to GND if unused.", 11 GND (power) "Circuit Ground.", 12 PG (oc) "Power Good Output. A 4uA current source from the internal charge pump rail (VPUMP) pulls PG up after the turn-on sequence is complete. The output is pulled to ground before turn-on is complete, when any monitor is out of (See Datasheet)", 13 GATE (oc) "Gate Drive for External N-Channel FETs. A 10uA current source from the internal charge pump rail (VPUMP) ramps the gates of the external Nchannel MOSFETs forcing all supplies to track on. The resistor and capacitor network (See Datasheet)", 14 SENSE (in) "Circuit Breaker Sense Input. An external resistor between VCC and SENSE sets the electronic circuit breaker trip current. The breaker trips when the voltage across the resistor exceeds 50mV for 1us. To disable the circuit (See Datasheet)", 15 VCC (power) "Supply Voltage. The voltage at VCC is monitored through an internal resistive divider in a manner similar to the V1-V4 inputs. An undervoltage lockout circuit disables the part until the voltage at VCC is greater than 2.2V. (See Datasheet)", 16 TIMER (in) "Timing Delay Input. Connect a capacitor between this pin and ground to set a 600ms/mF delay at two points in the monitoring sequence. This sets the delay after all monitors are good, before the start of GATE ramping, and the (See Datasheet)"

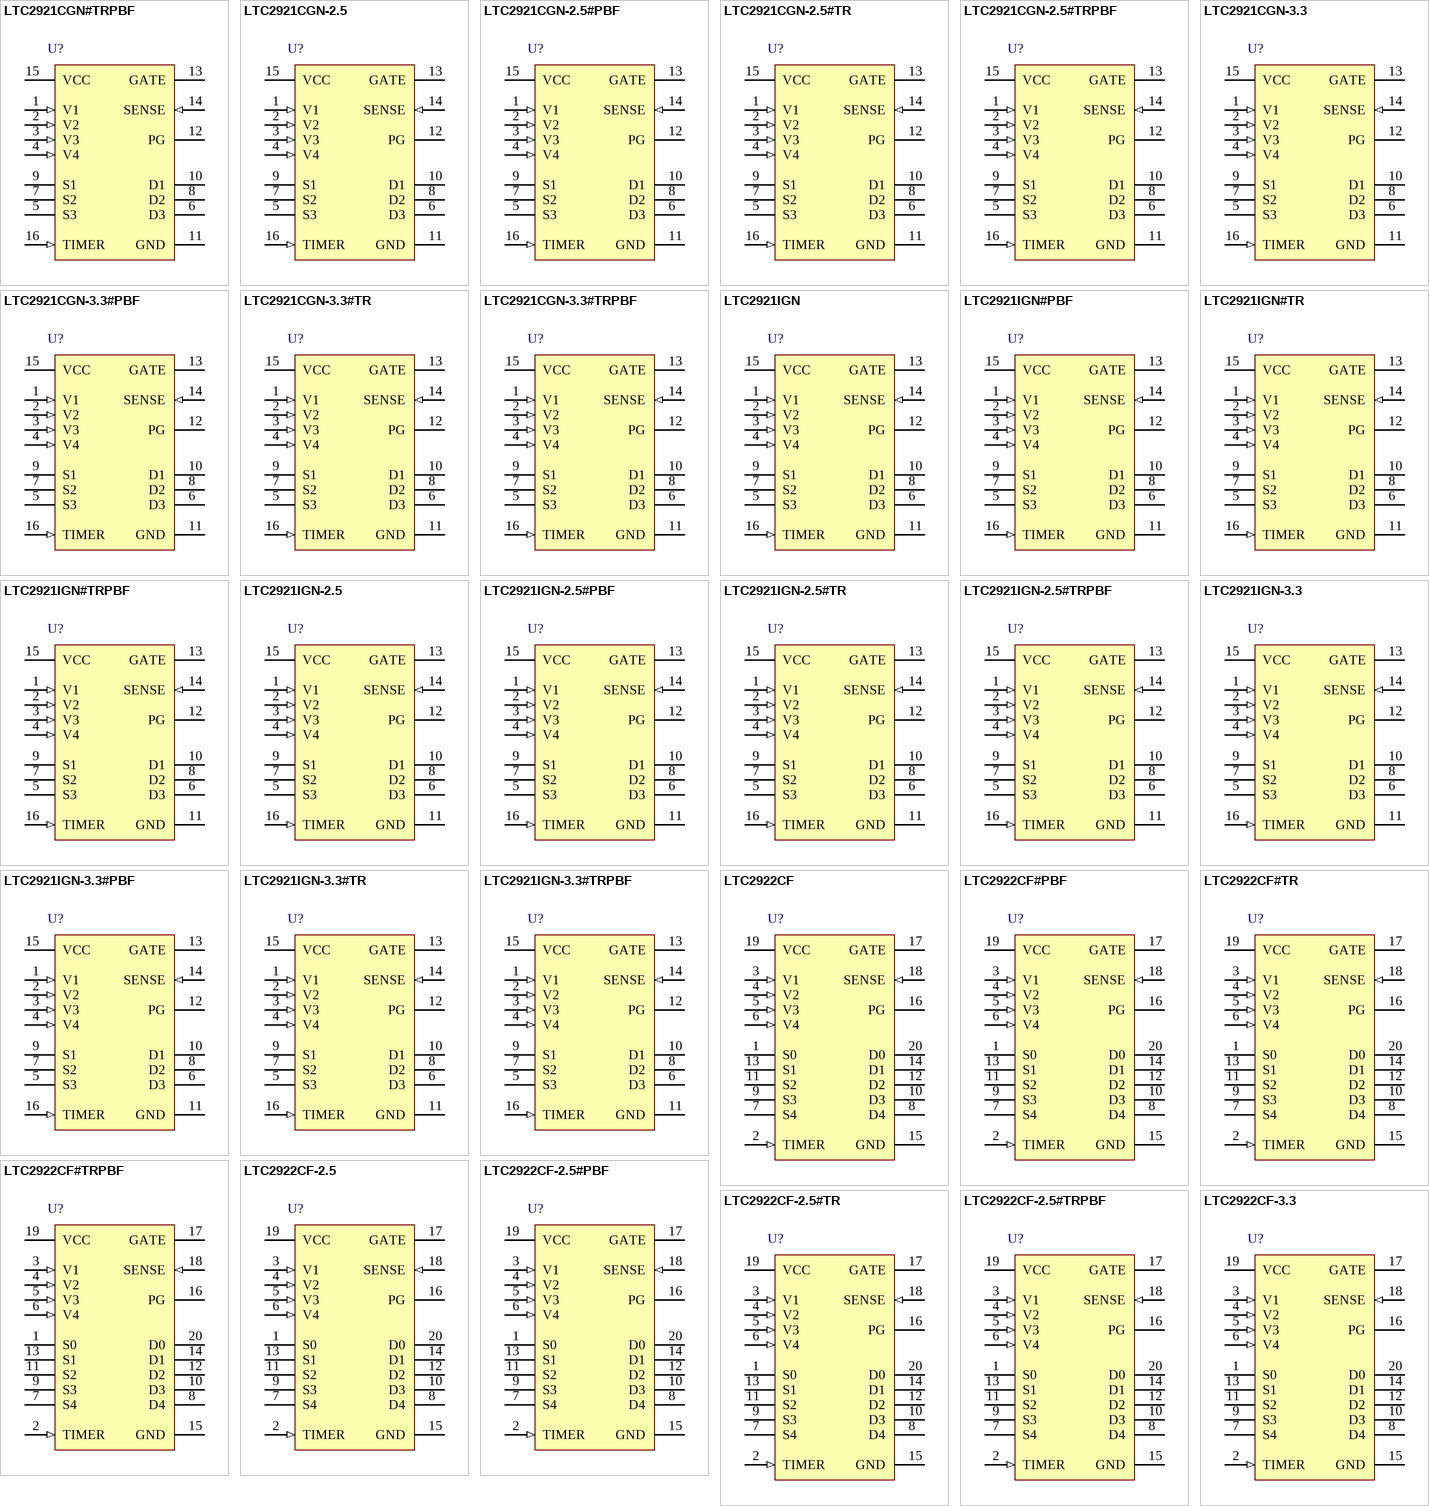
[diagram p27: symbols LTC2921CGN#TRPBF to LTC2922CF-3.3]